# EAGLE library part BM-DPDT-1-1 (library switch-gorva)
Toggle Switch DPDT, Sealed Sub-Miniature
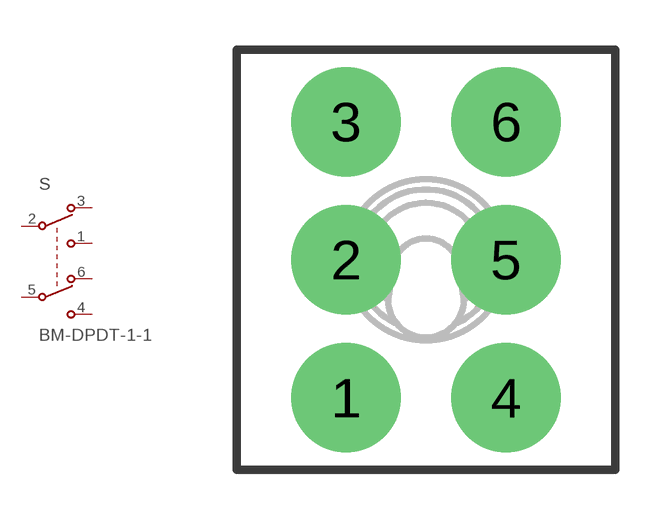
[diagram p0: symbol with the pads of BM-DPDT-1-1; footprint BM-DPDT-1-1]

Designator prefix S

## BM-DPDT-1-1  [BM-DPDT-1-1]
1  NO1  pas
2  COM1  pas
3  NC1  pas
4  NO2  pas
5  COM2  pas
6  NC2  pas

## Footprint BM-DPDT-1-1 (pad centres in mm)
Sealed Sub-Miniature Toggle Switch
drill 2.286: 1 -2.415,-4.17; 2 -2.415,0; 3 -2.415,4.17; 4 2.415,-4.17; 5 2.415,0; 6 2.415,4.17